# EAGLE library part ESP32-WROVER-E (library MouserUseful)
RX TXRX MOD WIFI PCB TRACE SMD Source: Datasheet <https://www.mouser.de/datasheet/2/891/esp32-wrover-e_esp32-wrover-ie_datasheet_en-1855913.pdf>
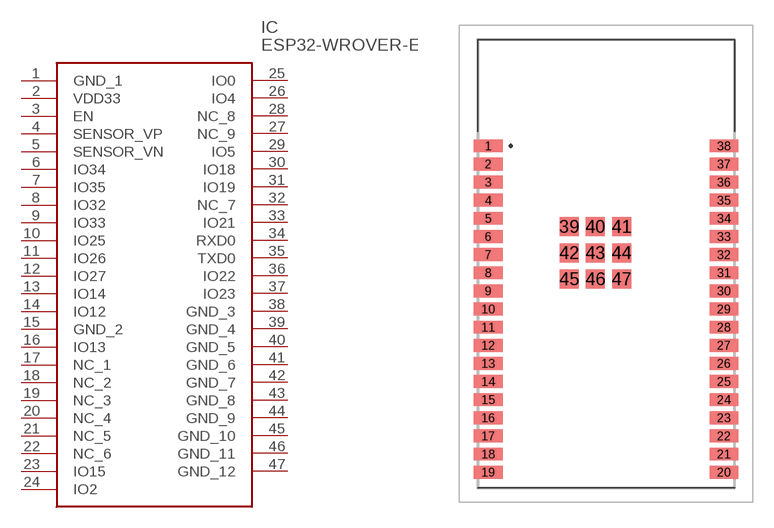
[diagram p10: symbol with the pads of ESP32WROVERBM213DH6464PC3Q0; footprint ESP32WROVERBM213DH6464PC3Q0]

Designator prefix IC

## ESP32-WROVER-E (DESCRIPTION: RX TXRX MOD WIFI PCB TRACE SMD; HEIGHT: 3.4mm; MANUFACTURER_NAME: Espressif Systems; MANUFACTURER_PART_NUMBER: ESP32-WROVER-E(M213EH3264PH3Q0))  [ESP32WROVERBM213DH6464PC3Q0]
1  GND_1
2  VDD33
3  EN
4  SENSOR_VP
5  SENSOR_VN
6  IO34
7  IO35
8  IO32
9  IO33
10  IO25
11  IO26
12  IO27
13  IO14
14  IO12
15  GND_2
16  IO13
17  NC_1  nc
18  NC_2  nc
19  NC_3  nc
20  NC_4  nc
21  NC_5  nc
22  NC_6  nc
23  IO15
24  IO2
25  IO0
26  IO4
27  NC_9  nc
28  NC_8  nc
29  IO5
30  IO18
31  IO19
32  NC_7  nc
33  IO21
34  RXD0
35  TXD0
36  IO22
37  IO23
38  GND_3
39  GND_4
40  GND_5
41  GND_6
42  GND_7
43  GND_8
44  GND_9
45  GND_10
46  GND_11
47  GND_12

## Footprint ESP32WROVERBM213DH6464PC3Q0 (pad centres in mm)
ESP32-WROVER-B (M213DH6464PC3Q0)-2
smd 2 x 0.9: 1 -7.5,7.5; 2 -7.5,6.23; 3 -7.5,4.96; 4 -7.5,3.69; 5 -7.5,2.42; 6 -7.5,1.15; 7 -7.5,-0.12; 8 -7.5,-1.39; 9 -7.5,-2.66; 10 -7.5,-3.93; 11 -7.5,-5.2; 12 -7.5,-6.47; 13 -7.5,-7.74; 14 -7.5,-9.01; 15 -7.5,-10.28; 16 -7.5,-11.55; 17 -7.5,-12.82; 18 -7.5,-14.09; 19 -7.5,-15.36; 20 9,-15.36; 21 9,-14.09; 22 9,-12.82; 23 9,-11.55; 24 9,-10.28; 25 9,-9.01; 26 9,-7.74; 27 9,-6.47; 28 9,-5.2; 29 9,-3.93; 30 9,-2.66; 31 9,-1.39; 32 9,-0.12; 33 9,1.15; 34 9,2.42; 35 9,3.69; 36 9,4.96; 37 9,6.23; 38 9,7.5
smd 1.33 x 1.33: 39 -1.835,1.835; 40 0,1.835; 41 1.835,1.835; 42 -1.835,0; 43 0,0; 44 1.835,0; 45 -1.835,-1.835; 46 0,-1.835; 47 1.835,-1.835